# Altium schematic symbol library Motor Driver.SCHLIB: 34 symbols
Pins are listed as number, name and electrical type; pins without a type are passive.

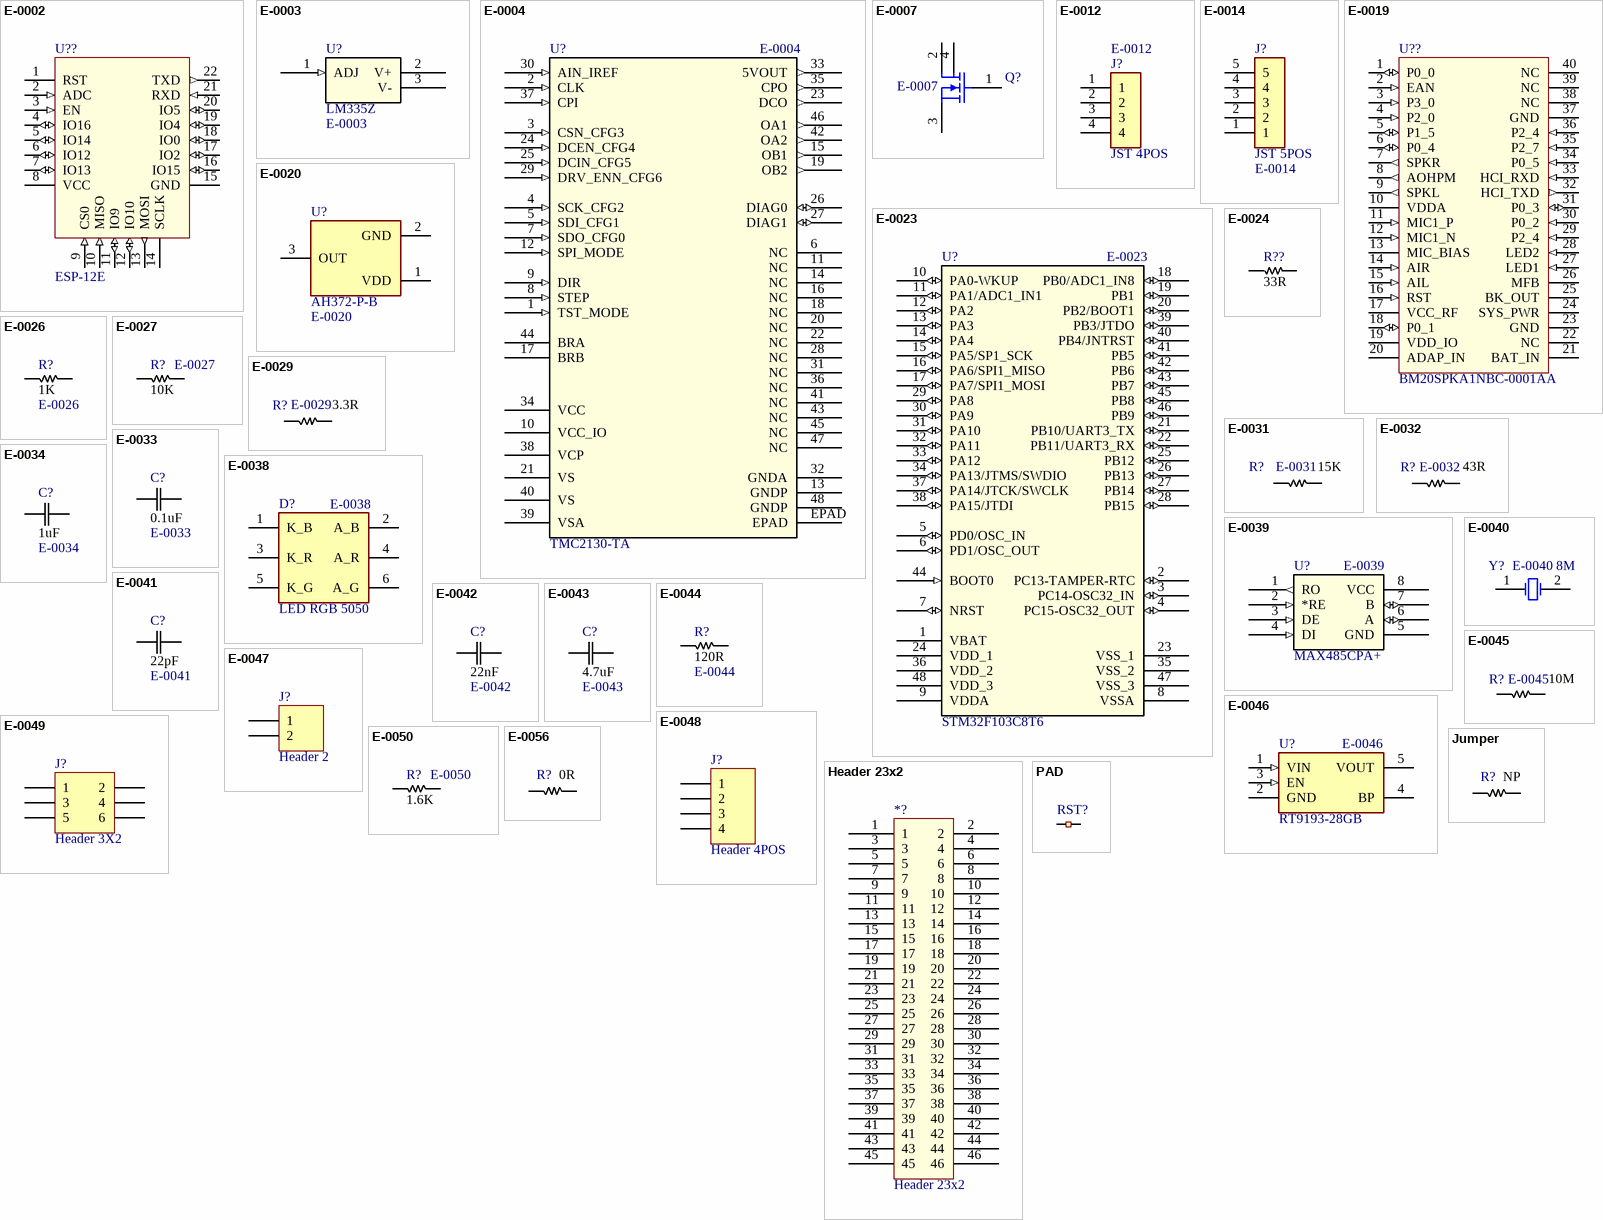
[diagram p0: symbols E-0002 to PAD]

## E-0002
designator U??, comment ESP-12E
Excel Number: E-0002
pins: 1 RST, 2 ADC (in), 3 EN (in), 4 IO16 (io), 5 IO14 (io), 6 IO12 (io), 7 IO13 (io), 8 VCC (power), 9 CS0 (in), 10 MISO (in), 11 IO9 (io), 12 IO10 (io), 13 MOSI (out), 14 SCLK, 15 GND (power), 16 IO15 (io), 17 IO2 (io), 18 IO0 (io), 19 IO4 (io), 20 IO5 (io), 21 RXD (in), 22 TXD (out)

## E-0003
designator U?, comment LM335Z  Excel Number: E-0003
Temperature Sensor LM335Z; Manufacturer_Name: STMicroelectronics; Built_By: Luka & Émile; VENDOR: https://www.digikey.ca/product-detail/en/stmicroelectronics/LM335Z/497-1584-ND/591686; MANUFACTURER_PART_NUMBER: LM335Z; Copyright: Luka & Émile; Datasheet Link: https://www.st.com/content/ccc/resource/technical/document/datasheet/04/fa/9d/16/39/87/44/8d/CD00000459.pdf/files/CD00000459.pdf/jcr:content/translations/en.CD00000459.pdf
footprint TO92
pins: 1 ADJ (in), 2 V+ (power), 3 V- (power)

## E-0004
designator U?, comment TMC2130-TA  Excel Number: E-0004
Motor Driver TMC2130-TA; Manufacturer_Part_Number: TMC2130-TA-T; Manufacturer_Name: Trinamic Motion Control GmbH; Built_By: Luka & Émile; Copyright: Luka & Émile; Vendor: https://www.digikey.ca/product-detail/en/trinamic-motion-control-gmbh/TMC2130-TA-T/1460-1186-1-ND/6572873; Datasheet Link: https://www.trinamic.com/fileadmin/assets/Products/ICs_Documents/TMC2130_datasheet.pdf
footprint eTQFP48_9x9
pins: 1 TST_MODE (in), 2 CLK (in), 3 CSN_CFG3 (in), 4 SCK_CFG2 (in), 5 SDI_CFG1 (in), 6 NC, 7 SDO_CFG0 (in), 8 STEP (in), 9 DIR (in), 10 VCC_IO (power), 11 NC, 12 SPI_MODE (in), 13 GNDP (power), 14 NC, 15 OB1 (out), 16 NC, 17 BRB, 18 NC, 19 OB2 (out), 20 NC, 21 VS (power), 22 NC, 23 DCO (out), 24 DCEN_CFG4 (in), 25 DCIN_CFG5 (in), 26 DIAG0 (io), 27 DIAG1 (io), 28 NC, 29 DRV_ENN_CFG6 (in), 30 AIN_IREF (in), 31 NC, 32 GNDA (power), 33 5VOUT (out), 34 VCC (power), 35 CPO (out), 36 NC, 37 CPI (in), 38 VCP (power), 39 VSA (power), 40 VS (power), 41 NC, 42 OA2 (out), 43 NC, 44 BRA, 45 NC, 46 OA1 (out), 47 NC, 48 GNDP (power), EPAD

## E-0007
designator Q?, comment Excel Number: E-0007  (hidden comment: MOSFET N-CH)
55V 7A SOT223; Manufacturer_Name: Nexperia USA Inc.; Manufacturer_Part_Number: BUK9880-55A/CUX; Built_By: Luka & Émile; Copyright: Luka & Émile; Datasheet Link: https://assets.nexperia.com/documents/data-sheet/BUK9880-55A.pdf; Vendor: https://www.digikey.ca/product-detail/en/nexperia-usa-inc/BUK9880-55A-CUX/1727-2230-1-ND/5361200
footprint SOT223_M (SOT223, 4-Leads, Body 6.5x3.5mm, Pitch 2.3mm, Lead Span 7mm, IPC Low Density)
pins: 1 G, 2 D, 3 S, 4 D

## E-0012
designator J?, comment JST 4POS  Excel Number: E-0012
Connector JST 4POS; Manufacturer_Name: JST Sales America Inc.; Manufacturer_Part_Number: S4B-XH-A(LF)(SN); Built_By: Luka & Émile; Datasheet Link: http://www.jst-mfg.com/product/pdf/eng/eXH.pdf; Copyright: Luka & Émile; Vendor: https://www.digikey.ca/product-detail/en/jst-sales-america-inc/S4B-XH-A(LF)(SN)/455-2243-ND/1651041
footprint SHDR4W64P0X250_1X4_1240X1155X700P
footprint JST 4POS 2.5mm 90°
pins: 1, 2, 3, 4

## E-0014
designator J?, comment JST 5POS  Excel Number: E-0014
Connector JST 5POS; Manufacturer_Name: JST Sales America Inc.; Manufacturer_Part_Number: S5B-XH-A-1(LF)(SN); Built_By: Luka & Émile; Datasheet Link: http://www.jst-mfg.com/product/pdf/eng/eXH.pdf; Copyright: Luka & Émile; Vendor: https://www.digikey.ca/product-detail/en/jst-sales-america-inc/S5B-XH-A-1(LF)(SN)/455-4228-ND/9961924
footprint S5BXHA1LFSN
footprint JST 5POS 2.5mm 90°
pins: 1, 2, 3, 4, 5

## E-0019
designator U??, comment BM20SPKA1NBC-0001AA
BM20 Bluetooth audio module; Manufacturer: Microchip; Excel Number: E-0019; ComponentLink1Description: Digikey; ComponentLink1URL: https://www.digikey.ca/product-detail/en/microchip-technology/BM20SPKA1NBC-0001AA/BM20SPKA1NBC-0001AA-ND/5323463; ManufacturerPartNumber: BM20SPKA1NBC-0001AA; MountingType: SMT
footprint U_BM20SPKA
pins: 1 P0_0 (io), 2 EAN (in), 3 P3_0 (in), 4 P2_0 (in), 5 P1_5 (io), 6 P0_4 (io), 7 SPKR (out), 8 AOHPM (out), 9 SPKL (out), 10 VDDA (power), 11 MIC1_P (in), 12 MIC1_N (in), 13 MIC_BIAS (power), 14 AIR (in), 15 AIL (in), 16 RST (in), 17 VCC_RF (power), 18 P0_1 (io), 19 VDD_IO (power), 20 ADAP_IN (power), 21 BAT_IN (power), 22 NC, 23 GND (power), 24 SYS_PWR (power), 25 BK_OUT (power), 26 MFB, 27 LED1 (in), 28 LED2 (in), 29 P2_4 (in), 30 P0_2 (in), 31 P0_3 (io), 32 HCI_TXD (out), 33 HCI_RXD (in), 34 P0_5 (in), 35 P2_7 (in), 36 P2_4 (in), 37 GND (power), 38 NC, 39 NC, 40 NC

## E-0020
designator U?, comment AH372-P-B  Excel Number: E-0020
Hall Sensor; Manufacturer_Name: Diodes Incorporated; Built_By: Luka & Émile; Datasheet Link: https://www.diodes.com/assets/Datasheets/AH372.pdf; Manufacturer_Part_Number: AH372-P-B; Copyright: Luka & Émile; Vendor: https://www.digikey.ca/products/en?keywords=621-AH372-P-B
footprint AH372PB
pins: 1 VDD, 2 GND, 3 OUT

## E-0023
designator U?, comment STM32F103C8T6  Excel Number: E-0023
STM32F103C8T6 Bluepill; Manufacturer_Part_Number: STM32F103C8T6TR; Manufacturer_Name: STMicroelectronics; Built_By: Luka & Émile; Vendor: https://www.digikey.ca/product-detail/en/stmicroelectronics/STM32F103C8T6TR/497-17666-1-ND/7804402; Copyright: Luka & Émile; Datasheet Link: https://www.st.com/resource/en/datasheet/stm32f103cb.pdf
footprint LQFP-48
pins: 1 VBAT (power), 2 PC13-TAMPER-RTC (io), 3 PC14-OSC32_IN (io), 4 PC15-OSC32_OUT (io), 5 PD0/OSC_IN (io), 6 PD1/OSC_OUT (io), 7 NRST (io), 8 VSSA (power), 9 VDDA (power), 10 PA0-WKUP (io), 11 PA1/ADC1_IN1 (io), 12 PA2 (io), 13 PA3 (io), 14 PA4 (io), 15 PA5/SP1_SCK (io), 16 PA6/SPI1_MISO (io), 17 PA7/SPI1_MOSI (io), 18 PB0/ADC1_IN8 (io), 19 PB1 (io), 20 PB2/BOOT1 (io), 21 PB10/UART3_TX (io), 22 PB11/UART3_RX (io), 23 VSS_1 (power), 24 VDD_1 (power), 25 PB12 (io), 26 PB13 (io), 27 PB14 (io), 28 PB15 (io), 29 PA8 (io), 30 PA9 (io), 31 PA10 (io), 32 PA11 (io), 33 PA12 (io), 34 PA13/JTMS/SWDIO (io), 35 VSS_2 (power), 36 VDD_2 (power), 37 PA14/JTCK/SWCLK (io), 38 PA15/JTDI (io), 39 PB3/JTDO (io), 40 PB4/JNTRST (io), 41 PB5 (io), 42 PB6 (io), 43 PB7 (io), 44 BOOT0 (in), 45 PB8 (io), 46 PB9 (io), 47 VSS_3 (power), 48 VDD_3 (power)

## E-0024
designator R??, comment value 33R  (hidden comment: Resistor 1206)
33R Resistor 1206 SMD; Manufacturer_Part_Number: ERJ8CWFR024V; Vendor: Panasonic; Built_By: EMA_Cory; Excel Number: E-0024; Copyright: Copyright (C) 2018 Accelerated Designs. All rights reserved; RefDes: RefDes; Type: DEV
footprint RES_ERJ8CW_HIGH
footprint RES1206
pins: 1, 2

## E-0026
designator R?, comment value 1K  Excel Number: E-0026  (hidden comment: Resistor 0603)
1K Resistor 0603 SMD; Manufacturer_Part_Number: RK73B1JTTD102J; Manufacturer_Name: KOA Speer Electronics, Inc.; Built_By: Luka & Émile; Vendor: https://www.digikey.ca/product-detail/en/RK73B1JTTD102J/2019-RK73B1JTTD102JCT-ND/9846742/?itemSeq=321579792; Copyright: Luka & Émile; Datasheet Link: http://www.koaspeer.com/pdfs/RK73B.pdf
footprint RES_ERJ8CW_HIGH
footprint RES1206
footprint 0603
pins: 1, 2

## E-0027
designator R?, comment value 10K  Excel Number: E-0027  (hidden comment: Resistor 0603)
10K Resistor 0603 SMD; Manufacturer_Part_Number: RMCF0603JT10K0; Manufacturer_Name: Stackpole Electronics Inc; Built_By: Luka & Émile; Vendor: https://www.digikey.ca/product-detail/en/RMCF0603JT10K0/RMCF0603JT10K0CT-ND/1943191/?itemSeq=321633246; Copyright: Luka & Émile; Datasheet Link: https://www.seielect.com/catalog/sei-rmcf_rmcp.pdf
footprint RES_ERJ8CW_HIGH
footprint RES1206
footprint 0603
pins: 1, 2

## E-0029
designator R?, comment value 3.3R  Excel Number: E-0029  (hidden comment: Resistor 0603)
3.3R Resistor 0603 SMD; Manufacturer_Part_Number: MCR03ERTJ3R3; Manufacturer_Name: Rohm Semiconductor; Built_By: Luka & Émile; Vendor: https://www.digikey.ca/product-detail/en/MCR03ERTJ3R3/RHM3.3CGCT-ND/4084417/?itemSeq=321633671; Copyright: Luka & Émile; Datasheet Link: https://www.digikey.ca/en/datasheets/rohm-semiconductor/rohm-semiconductor-mcr_g
footprint RES_ERJ8CW_HIGH
footprint RES1206
footprint 0603
pins: 1, 2

## E-0031
designator R?, comment value 15K  Excel Number: E-0031  (hidden comment: Resistor 0603)
15K Resistor 0603 SMD; Manufacturer_Part_Number: RMCF0603FG15K0; Manufacturer_Name: Stackpole Electronics Inc; Built_By: Luka & Émile; Vendor: https://www.digikey.ca/product-detail/en/RMCF0603FG15K0/RMCF0603FG15K0CT-ND/4425035/?itemSeq=321674385; Copyright: Luka & Émile; Datasheet Link: https://www.seielect.com/catalog/sei-rmcf_rmcp.pdf
footprint RES_ERJ8CW_HIGH
footprint RES1206
footprint 0603
pins: 1, 2

## E-0032
designator R?, comment value 43R  Excel Number: E-0032  (hidden comment: Resistor 0603)
43R Resistor 0603 SMD; Manufacturer_Part_Number: RK73B1JTTD430J; Manufacturer_Name: KOA Speer Electronics, Inc.; Built_By: Luka & Émile; Vendor: https://www.digikey.ca/product-detail/en/RK73B1JTTD430J/2019-RK73B1JTTD430JCT-ND/9846882/?itemSeq=321674550; Copyright: Luka & Émile; Datasheet Link: http://www.koaspeer.com/pdfs/RK73B.pdf
footprint RES_ERJ8CW_HIGH
footprint RES1206
footprint 0603
pins: 1, 2

## E-0033
designator C?, comment value 0.1uF  Excel Number: E-0033  (hidden comment: Capacitor SMD)
0.1uF Capacitor 0603 SMD; Manufacturer_Part_Number: C0603C104Z3VACTU; Manufacturer_Name: KEMET; Built_By: Luka & Émile; Vendor: https://www.digikey.ca/product-detail/en/C0603C104Z3VACTU/399-1100-1-ND/411375/?itemSeq=321556474; Copyright: Luka & Émile; Datasheet Link: http://www.koaspeer.com/pdfs/RK73B.pdf
footprint CAP1206
footprint 0603
pins: 1, 2

## E-0034
designator C?, comment value 1uF  Excel Number: E-0034  (hidden comment: Capacitor SMD)
1uf Capacitor 0603 SMD; Manufacturer_Part_Number: CL10A105KA8NNNC; Manufacturer_Name: Samsung Electro-Mechanics; Built_By: Luka & Émile; Vendor: https://www.digikey.ca/product-detail/en/CL10A105KA8NNNC/1276-1102-1-ND/3889188/?itemSeq=321556777; Copyright: Luka & Émile; Datasheet Link: https://www.samsungsem.com/resources/file/global/support/product_catalog/MLCC.pdf
footprint CAP1206
footprint 0603
pins: 1, 2

## E-0038
designator D?, comment LED RGB 5050  Excel Number: E-0038
Manufacturer_Name: Wurth Elektronik; Manufacturer_Part_Number: 150505M173300; Built_By: Luka & Émile; Datasheet Link: https://www.we-online.de/katalog/datasheet/150505M173300.pdf; Copyright: Luka & Émile; Vendor: https://www.digikey.ca/product-detail/en/w%C3%BCrth-elektronik/150505M173300/732-12000-2-ND/8557165
footprint 150505M173300
footprint LED 5050
pins: 1 K_B, 2 A_B, 3 K_R, 4 A_R, 5 K_G, 6 A_G

## E-0039
designator U?, comment MAX485CPA+  Excel Number: E-0039
RS485 Communication; Manufacturer_Name: Maxim Integrated; Built_By: Luka & Émile; Vendor: https://www.digikey.ca/product-detail/en/maxim-integrated/MAX485CPA/MAX485CPA-ND/948026; Manufacturer_Part_Number: MAX485CPA+; Copyright: Luka & Émile; Datasheet Link: https://datasheets.maximintegrated.com/en/ds/MAX1487-MAX491.pdf
footprint 21-0043D_8
footprint DIP 8 - 3D
pins: 1 RO (out), 2 *RE (in), 3 DE (in), 4 DI (in), 5 GND (power), 6 A (io), 7 B (io), 8 VCC (power)

## E-0040
designator Y?, comment 8M  Excel Number: E-0040
Crystal 8M; Manufacturer_Part_Number: ATS080B-E; Manufacturer_Name: CTS-Frequency Controls; Built_By: Luka & Émile; Copyright: Luka & Émile; Value: 8M; Datasheet Link: https://www.ctscorp.com/wp-content/uploads/ATS-ATSSM.pdf; Vendor: https://www.digikey.ca/product-detail/en/cts-frequency-controls/ATS080B-E/CTX917-ND/2292902
simulation model XTAL (Spice Subcircuit)
footprint Model Name (Footprint not found)
footprint ATS080B-E (Crystal/ Oscillator 8MHz)
pins: 1 OSC1, 2 OSC2

## E-0041
designator C?, comment value 22pF  Excel Number: E-0041  (hidden comment: Capacitor SMD)
22pF Capacitor 0603 SMD; Manufacturer_Part_Number: C0603C220J1GACTU; Manufacturer_Name: KEMET; Built_By: Luka & Émile; Vendor: https://www.digikey.ca/product-detail/en/kemet/C0603C220J1GACTU/399-7874-1-ND/3471597; Copyright: Luka & Émile; Datasheet Link: https://content.kemet.com/datasheets/KEM_C1003_C0G_SMD.pdf
footprint CAP1206
footprint 0603
pins: 1, 2

## E-0042
designator C?, comment value 22nF  Excel Number: E-0042  (hidden comment: Capacitor SMD)
22nF Capacitor 0603 SMD; Manufacturer_Part_Number: C0603C223K1RACTU; Built_By: Luka & Émile; Vendor: https://www.digikey.ca/product-detail/en/kemet/C0603C223K1RACTU/399-3476-1-ND/754769; Copyright: Luka & Émile; Datasheet Link: https://content.kemet.com/datasheets/KEM_C1002_X7R_SMD.pdf
footprint CAP1206
footprint 0603
pins: 1, 2

## E-0043
designator C?, comment value 4.7uF  Excel Number: E-0043  (hidden comment: Capacitor SMD)
4.7uF Capacitor 0603 SMD; Manufacturer_Part_Number: C0603C475K9PACTU; Manufacturer_Name: KEMET; Built_By: Luka & Émile; Vendor: https://www.digikey.ca/product-detail/en/kemet/C0603C475K9PACTU/399-3482-1-ND/754775; Copyright: Luka & Émile; Datasheet Link: https://content.kemet.com/datasheets/KEM_C1006_X5R_SMD.pdf
footprint CAP1206
footprint 0603
pins: 1, 2

## E-0044
designator R?, comment value 120R  Excel Number: E-0044  (hidden comment: Resistor 0603)
120R Resistor 0603 SMD; Manufacturer_Part_Number: KDV06FR120ET; Manufacturer_Name: Ohmite; Built_By: Luka & Émile; Vendor: https://www.digikey.ca/en/products/detail/ohmite/KDV06FR120ET/10476537; Copyright: Luka & Émile; Datasheet Link: https://www.ohmite.com/assets/docs/res_kdv.pdf?r=false
footprint RES_ERJ8CW_HIGH
footprint RES1206
footprint 0603
pins: 1, 2

## E-0045
designator R?, comment value 10M  Excel Number: E-0045  (hidden comment: Resistor 0603)
10M Resistor 0603 SMD; Manufacturer_Part_Number: CRCW060310M0FKEAC; Manufacturer_Name: Vishay Dale; Built_By: Luka & Émile; Vendor: https://www.digikey.ca/en/products/detail/vishay-dale/CRCW060310M0FKEAC/7928470; Copyright: Luka & Émile; Datasheet Link: http://www.vishay.com/docs/28773/crcwce3.pdf
footprint RES_ERJ8CW_HIGH
footprint RES1206
footprint 0603
pins: 1, 2

## E-0046
designator U?, comment RT9193-28GB  Excel Number: E-0046
Voltage Regulator 3.3V SOT-23-5; Manufacturer_Name: Richtek USA Inc.; Built_By: Luka & Émile; Datasheet Link: https://www.richtek.com/assets/product_file/RT9193/DS9193-17.pdf; Manufacturer_Part_Number: RT9193-28GB; Copyright: Luka & Émile; Vendor: https://www.digikey.ca/product-detail/en/richtek-usa-inc/RT9193-28GB/1028-1072-2-ND/2546936
footprint SOT94P279X130-5N
pins: 1 VIN (in), 2 GND (power), 3 EN (in), 4 BP, 5 VOUT

## E-0047
designator J?, comment Header 2
Header, 2-Pin; Built_By: Luka & Émile; Copyright: Luka & Émile
footprint HDR1X2 (Connector; Header; 2 Position)
signal-integrity model Connector
pins: 1, 2

## E-0048
designator J?, comment Header 4POS
Header, 4POS; Built_By: Luka & Émile; Copyright: Luka & Émile
footprint HDR1X4 (Connector; Header; 4 Position)
signal-integrity model Connector
pins: 1, 2, 3, 4

## E-0049
designator J?, comment Header 3X2
Header, 3-Pin, Dual row; Built_By: Luka & Émile; Copyright: Luka & Émile
footprint Header 3x2 1.27mm SMD
signal-integrity model Connector
footprint HDR2X3 (Connector; Header; 3x2 Position)
pins: 1, 2, 3, 4, 5, 6

## E-0050
designator R?, comment value 1.6K  Excel Number: E-0050  (hidden comment: Resistor 0603)
1.6K Resistor 0603 SMD; Manufacturer_Part_Number: CRCW06031K60JNEA; Manufacturer_Name: Vishay Dale; Built_By: Luka & Émile; Vendor: https://www.digikey.ca/en/products/detail/vishay-dale/CRCW06031K60JNEA/1174234; Copyright: Luka & Émile; Datasheet Link: N/A
footprint RES_ERJ8CW_HIGH
footprint RES1206
footprint 0603
pins: 1, 2

## E-0056
designator R?, comment value 0R  (hidden comment: Resistor 0603)
0R Resistor 0603 SMD; Built_By: Luka & Émile; Excel Number: E-0054; Copyright: Luka & Émile
footprint RES_ERJ8CW_HIGH
footprint RES1206
footprint 0603
pins: 1, 2

## Header 23x2
designator *?
Excel Number: E-0101
pins: 1, 2, 3, 4, 5, 6, 7, 8, 9, 10, 11, 12, 13, 14, 15, 16, 17, 18, 19, 20, 21, 22, 23, 24, 25, 26, 27, 28, 29, 30, 31, 32, 33, 34, 35, 36, 37, 38, 39, 40, 41, 42, 43, 44, 45, 46

## Jumper
designator R?, comment value NP  (hidden comment: Resistor 0603)
Jumper 0603; Built_By: Luka & Émile; Copyright: Luka & Émile
footprint RES_ERJ8CW_HIGH
footprint RES1206
footprint 0603
pins: 1, 2

## PAD
designator RST?, comment PAD RST  (value not drawn)
SMD Pad for contact; Built_By: Luka & Émile; Copyright: Luka & Émile
footprint PAD (pad for connection)
pins: 1, 2